# EAGLE library part FUENTE_24V (library ecar)
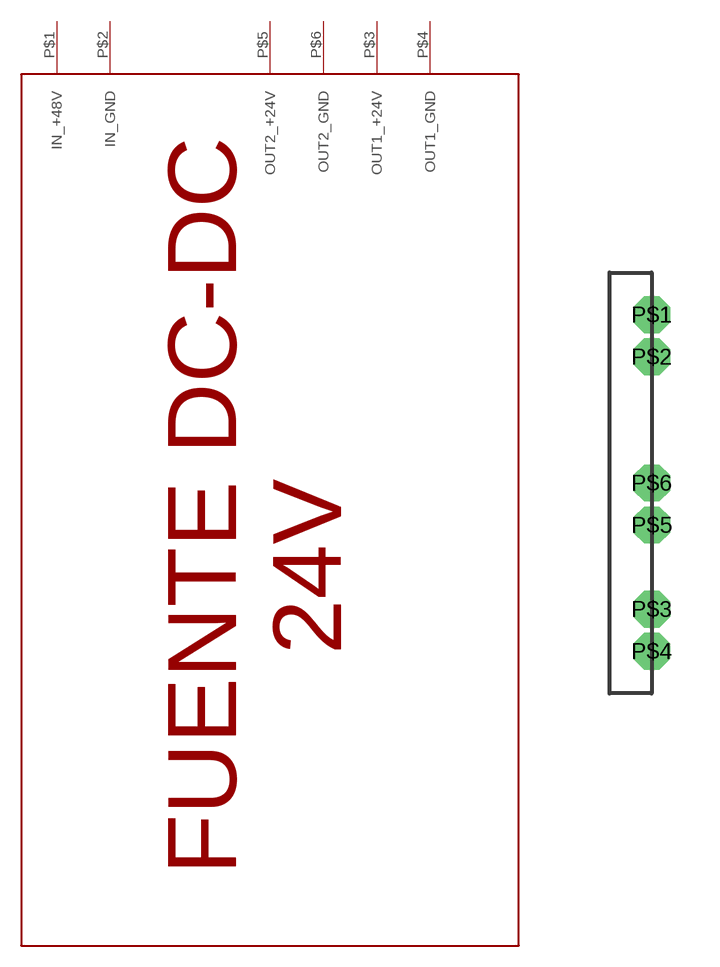
[diagram p7: symbol with the pads of FUENTE_24V; footprint FUENTE_24V]

Designator prefix -

## FUENTE_24V  [FUENTE_24V]
P$1  IN_+48V
P$2  IN_GND
P$3  OUT1_+24V
P$4  OUT1_GND
P$5  OUT2_+24V
P$6  OUT2_GND

## Footprint FUENTE_24V (pad centres in mm)
drill 0.6 octagon: P$1 1.27,11.43; P$2 1.27,10.16; P$3 1.27,2.54; P$4 1.27,1.27; P$5 1.27,5.08; P$6 1.27,6.35